# Altium integrated library ADS-228.IntLib: 11 symbols
Pins are listed as number, name and electrical type; pins without a type are passive.

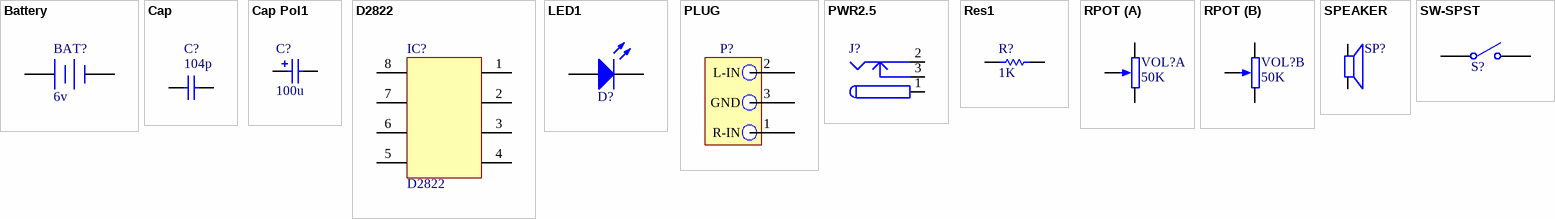
[diagram p0: symbols Battery to SW-SPST]

## Battery
designator BAT?, comment 6v
Multicell Battery; Published: 24-Mar-1999; LatestRevisionDate: 17-Jul-2002; LatestRevisionNote: Re-released for DXP Platform.; PackageReference: BAT-2; Publisher: Altium Limited
footprint BAT
pins: 1 +, 2 -

## Cap
designator C?  value 104p  (hidden comment: Cap)
Capacitor; Published: 8-Jun-2000; LatestRevisionDate: 17-Jul-2002; LatestRevisionNote: Re-released for DXP Platform.; PackageReference: RAD-0.3; Publisher: Altium Limited
footprint RAD3
pins: 1, 2

## Cap Pol1
designator C?  value 100u  (hidden comment: Cap Pol1)
Polarized Capacitor (Radial); Published: 8-Jun-2000; LatestRevisionDate: 17-Jul-2002; LatestRevisionNote: Re-released for DXP Platform.; PackageReference: RB7.6-15; Publisher: Altium Limited
footprint CAPPR3-5
footprint CAPPR4-6
pins: 1, 2
1 alternate drawing of the same symbol

## D2822
designator IC?
footprint DIP8
pins: 1, 2, 3, 4, 5, 6, 7, 8

## LED1
designator D?  (value not drawn)
Typical RED GaAs LED; Published: 8-Jun-2000; LatestRevisionDate: 08-Jul-2005; LatestRevisionNote: Mech Layer 1 removed.; PackageReference: LED-1; Publisher: Altium Limited
footprint LED
pins: 1 A, 2 K

## PLUG
designator P?  (value not drawn)
footprint HDR1X3
pins: 1 R-IN, 2 L-IN, 3 GND (power)

## PWR2.5
designator J?  (value not drawn)
Low Voltage Power Supply Connector; Published: 17-Dec-2003; DatasheetDocument: 09-May-2002; Publisher: Altium Limited; ComponentLink1Description: Manufacturer Link; ComponentLink1URL: http://domino.kycon.com/internet/Products.html
footprint DC
pins: 1 (power), 2 (power), 3 (power)

## Res1
designator R?  value 1K  (hidden comment: Res1)
Resistor; Published: 8-Jun-2000; LatestRevisionDate: 17-Jul-2002; LatestRevisionNote: Re-released for DXP Platform.; PackageReference: AXIAL-0.3; Publisher: Altium Limited
footprint AXIAL3.8
footprint AXIAL5
footprint AXIAL3
pins: 1, 2

## RPOT
designator VOL?  value 50K  (hidden comment: RPOT)
footprint VR
pins on every part: 0 GND (power) hidden to GND
part A pins: 1, 2, 3
part B pins: 2, 4, 5

## SPEAKER
designator SP?  (value not drawn)
footprint SPAKER1
footprint SPAKER2
pins: 1, 2

## SW-SPST
designator S?  (value not drawn)
Single-Pole, Single-Throw Switch; Published: 24-Mar-1999; LatestRevisionDate: 17-Jul-2002; LatestRevisionNote: Re-released for DXP Platform.; PackageReference: SPST-2; Publisher: Altium Limited
footprint SW
pins: 0 GND (power) hidden to GND, 1, 2